# EAGLE library part DF9-41S (library con-hirose-sph)
SMD CONNECTOR Source: con-hirose.lbr from Bob Starr <rtzaudio@mindspring.com>
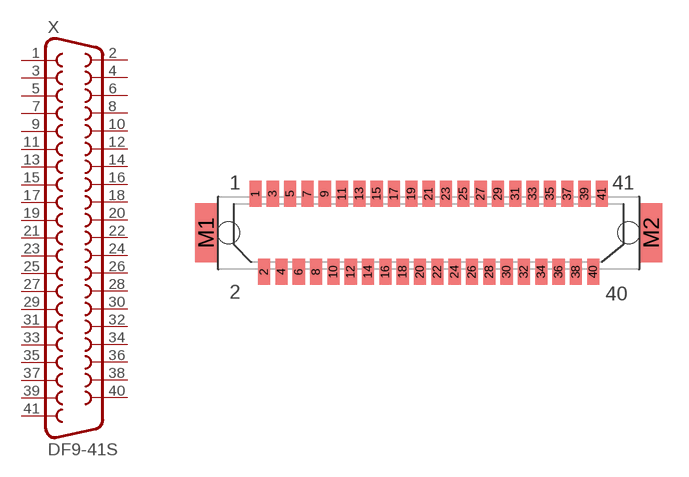
[diagram p48: symbol with the pads of DF9-41S; footprint DF9-41S]

Designator prefix X

## DF9-41S (MPN: DF9-41S-1V(32); OC_FARNELL: 1798384; OC_NEWARK: 74R3385)  [DF9-41S]
1  1  pas
2  2  pas
3  3  pas
4  4  pas
5  5  pas
6  6  pas
7  7  pas
8  8  pas
9  9  pas
10  10  pas
11  11  pas
12  12  pas
13  13  pas
14  14  pas
15  15  pas
16  16  pas
17  17  pas
18  18  pas
19  19  pas
20  20  pas
21  21  pas
22  22  pas
23  23  pas
24  24  pas
25  25  pas
26  26  pas
27  27  pas
28  28  pas
29  29  pas
30  30  pas
31  31  pas
32  32  pas
33  33  pas
34  34  pas
35  35  pas
36  36  pas
37  37  pas
38  38  pas
39  39  pas
40  40  pas
41  41  pas

## Footprint DF9-41S (pad centres in mm)
CONNECTOR
smd 0.7 x 1.5: 1 -10,2.25; 2 -9.5,-2.25; 3 -9,2.25; 4 -8.5,-2.25; 5 -8,2.25; 6 -7.5,-2.25; 7 -7,2.25; 8 -6.5,-2.25; 9 -6,2.25; 10 -5.5,-2.25; 11 -5,2.25; 12 -4.5,-2.25; 13 -4,2.25; 14 -3.5,-2.25; 15 -3,2.25; 16 -2.5,-2.25; 17 -2,2.25; 18 -1.5,-2.25; 19 -1,2.25; 20 -0.5,-2.25; 21 0,2.25; 22 0.5,-2.25; 23 1,2.25; 24 1.5,-2.25; 25 2,2.25; 26 2.5,-2.25; 27 3,2.25; 28 3.5,-2.25; 29 4,2.25; 30 4.5,-2.25; 31 5,2.25; 32 5.5,-2.25; 33 6,2.25; 34 6.5,-2.25; 35 7,2.25; 36 7.5,-2.25; 37 8,2.25; 38 8.5,-2.25; 39 9,2.25; 40 9.5,-2.25; 41 10,2.25
smd 1.3 x 3.4: M1 -12.85,0; M2 12.85,0
hole 1.27 at 11.55,0
hole 1.27 at -11.55,0